# Altium footprint library SM_DIODE_SOD-123.PcbLib: 1 footprints
Each footprint in its own frame and in the unit in brackets; x right, y up, seen from the top. Pads: shape width x height; smd on the part's side, far side on the other; paste and mask are expansions set on the pad; w line width, h text height; cw(c..) or ccw(c..) is an arc to the next point about the centre after c.
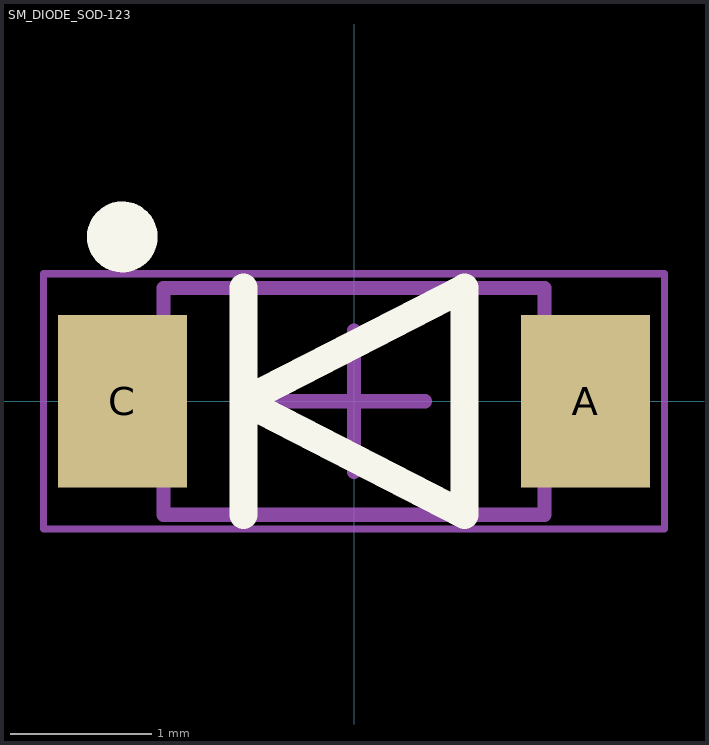
[diagram p0: the footprint, top view; thin cyan lines are the x and y axes]

## SM_DIODE_SOD-123 [mm] "SOD, 2-Leads, Body 2.69x1.6mm"
height 1.35
pads (2):
  rect 0.91x1.22 smd: A(1.635,0) C(-1.635,0)
Top Overlay:
  circle w0.25: c-1.635,1.16 r0.125
  lines w0.2: -0.78,-0.8 -0.78,0.8 ; -0.78,0 0.78,0.8 0.78,-0.8 -0.78,0
Mechanical 13:
  lines w0.1: -1.345,-0.8 -1.345,0.8 1.345,0.8 1.345,-0.8 -1.345,-0.8
Mechanical 15:
  lines w0.05: -2.19,-0.9 -2.19,0.9 2.19,0.9 2.19,-0.9 -2.19,-0.9
  lines w0.1: -0.5,0 0.5,0 ; 0,-0.5 0,0.5
3D body: height 1.35, standoff 0, extent -1.345,-0.8 1.345,0.8